# EAGLE library part CONN_07X2 (library e-Lib-Connectors)
Multi connection point - 07X2
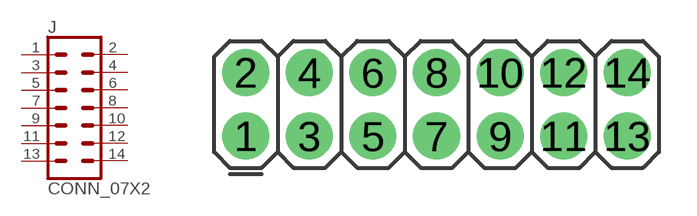
[diagram p2: symbol with the pads of 07X2; footprint 07X2]

Designator prefix J

## CONN_07X2  [07X2]
1  1  pas
2  2  pas
3  3  pas
4  4  pas
5  5  pas
6  6  pas
7  7  pas
8  8  pas
9  9  pas
10  10  pas
11  11  pas
12  12  pas
13  13  pas
14  14  pas

## Footprint 07X2 (pad centres in mm)
Plated Through Hole - 2x7 Specifications: Pin count:16 Pin pitch:0.1"
drill 1.016 pad 1.88: 1 0,0; 2 0,2.54; 3 2.54,0; 4 2.54,2.54; 5 5.08,0; 6 5.08,2.54; 7 7.62,0; 8 7.62,2.54; 9 10.16,0; 10 10.16,2.54; 11 12.7,0; 12 12.7,2.54; 13 15.24,0; 14 15.24,2.54